# Altium footprint library LaserPCB.PcbLib: 69 footprints (part 4 of 5)
Each footprint in its own frame and in the unit in brackets; x right, y up, seen from the top. Pads: shape width x height; smd on the part's side, far side on the other; paste and mask are expansions set on the pad; w line width, h text height; cw(c..) or ccw(c..) is an arc to the next point about the centre after c.
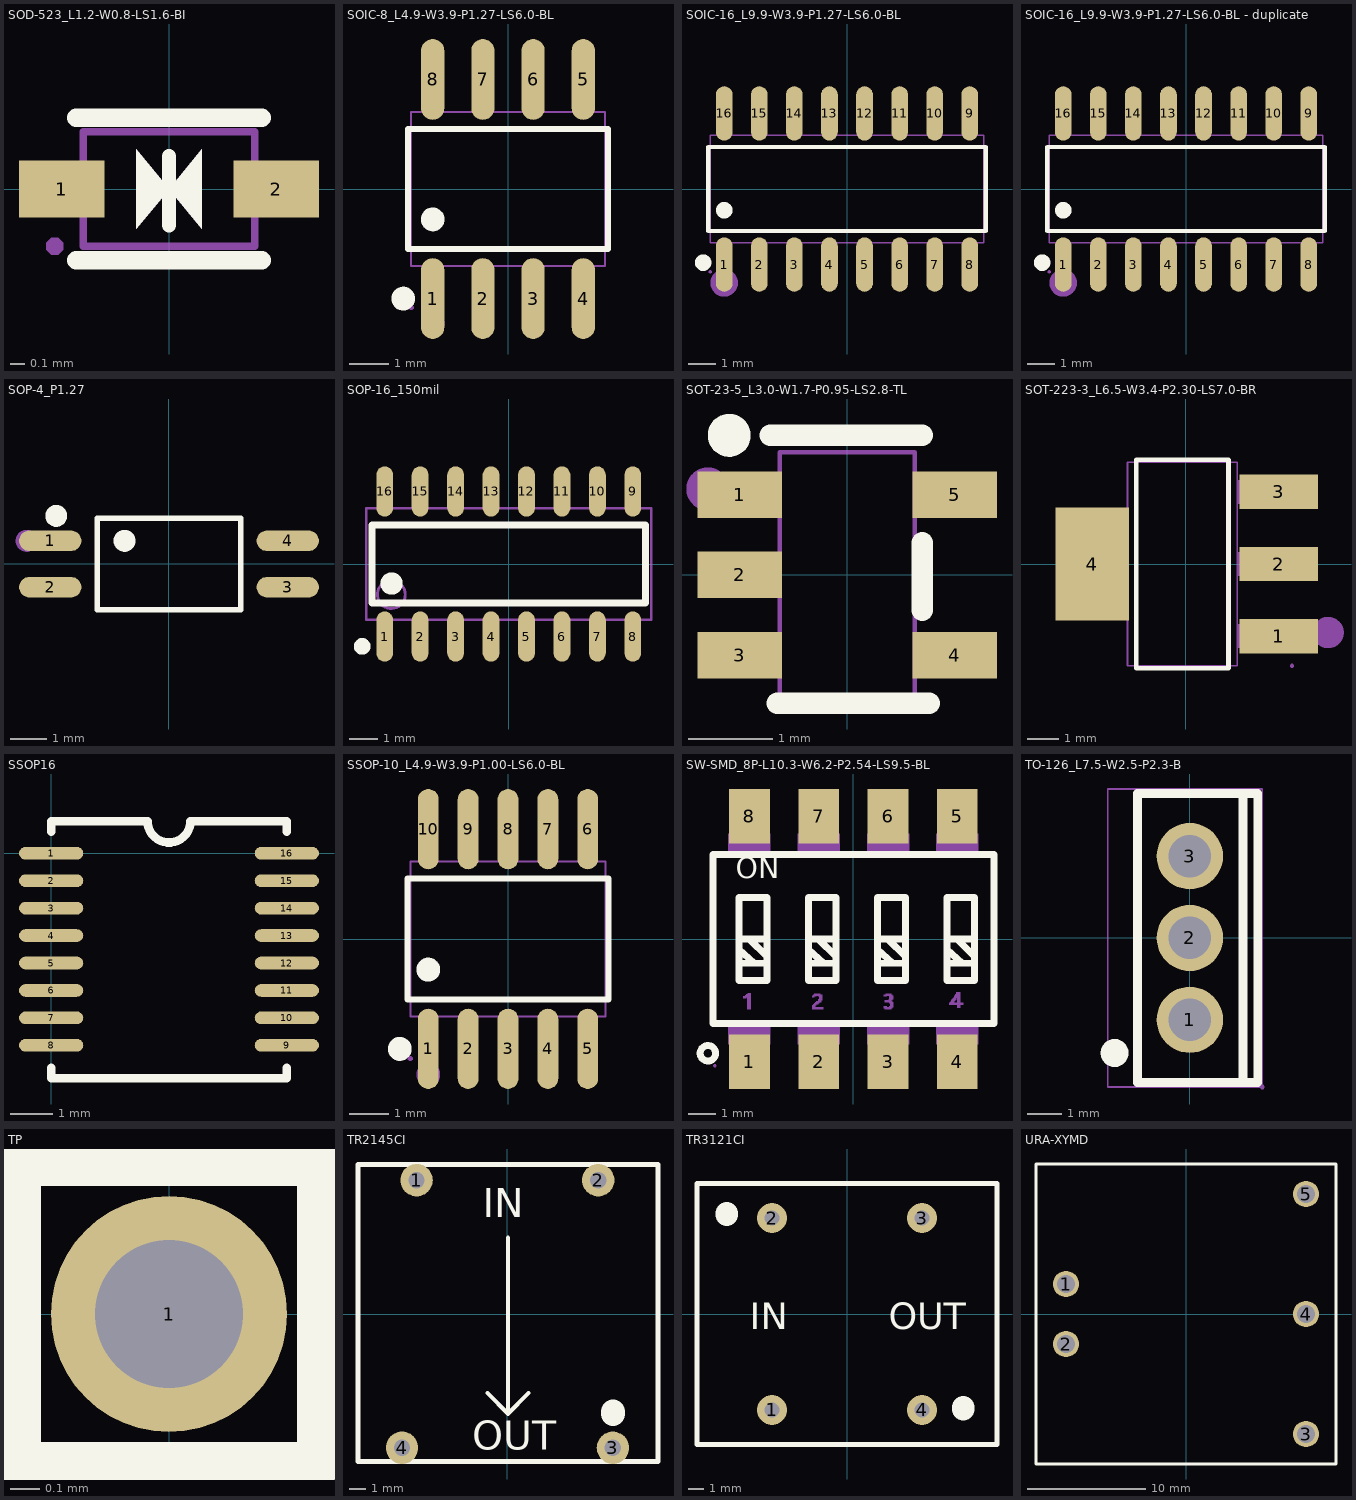
[diagram p3: the footprints below, top view; thin cyan lines are the x and y axes]

## SOD-523_L1.2-W0.8-LS1.6-BI [mm]
pads (2):
  rect 0.6x0.4 smd: 1(-0.75,0) 2(0.75,0)
Top Overlay:
  region: 0,0 0.229,0.279 0.229,-0.279
  region: 0,0 -0.229,-0.279 -0.229,0.279
  lines w0.1: 0,-0.254 0,0.229
  lines w0.13: -0.65,-0.5 0.65,-0.5 ; -0.65,0.5 0.65,0.5
Mechanical 6:
  region: -0.229,0.279 -0.229,-0.279 0,0
  region: 0.229,0.279 0.229,-0.279 0,0
Mechanical 15:
  region: -0.74,-0.4 -0.74,-0.425 -0.775,-0.46 -0.825,-0.46 -0.86,-0.425 -0.86,-0.4 -0.86,-0.375 -0.825,-0.34 -0.775,-0.34 -0.74,-0.375
  region: 0.8,-0.152 0.463,-0.152 0.463,0.148 0.8,0.148
  region: -0.8,0.15 -0.463,0.15 -0.463,-0.15 -0.8,-0.15
  lines w0.051: -0.6,-0.4 -0.6,0.4 0.6,0.4 0.6,-0.4 -0.6,-0.4

## SOIC-8_L4.9-W3.9-P1.27-LS6.0-BL [mm]
pads (8):
  oval 0.588x2.045 smd: 1(-1.905,-2.772) 2(-0.635,-2.772) 3(0.635,-2.772) 4(1.905,-2.772) 5(1.905,2.772) 6(0.635,2.772) 7(-0.635,2.772) 8(-1.905,2.772)
Top Overlay:
  circle w0.3: c-2.652,-2.772 r0.15
  circle w0.3: c-1.905,-0.769 r0.15
  lines w0.152: -2.526,-1.521 2.526,-1.521 2.526,1.521 -2.526,1.521 -2.526,-1.521
Mechanical 6:
  circle w0.3: c-1.905,-3.4 r0.15
Mechanical 15:
  region: 1.695,2.175 1.695,1.94 2.115,1.94 2.115,2.175
  region: 1.695,3 1.695,2.165 2.115,2.165 2.115,3
  region: 0.425,2.175 0.425,1.94 0.845,1.94 0.845,2.175
  region: 0.425,3 0.425,2.165 0.845,2.165 0.845,3
  region: -0.845,2.175 -0.845,1.94 -0.425,1.94 -0.425,2.175
  region: -0.845,3 -0.845,2.165 -0.425,2.165 -0.425,3
  region: -2.115,2.175 -2.115,1.94 -1.695,1.94 -1.695,2.175
  region: -2.115,3 -2.115,2.165 -1.695,2.165 -1.695,3
  region: 1.695,-2.175 1.695,-1.94 2.115,-1.94 2.115,-2.175
  region: 1.695,-3 1.695,-2.165 2.115,-2.165 2.115,-3
  region: 0.425,-2.175 0.425,-1.94 0.845,-1.94 0.845,-2.175
  region: 0.425,-3 0.425,-2.165 0.845,-2.165 0.845,-3
  region: -0.845,-2.175 -0.845,-1.94 -0.425,-1.94 -0.425,-2.175
  region: -0.845,-3 -0.845,-2.165 -0.425,-2.165 -0.425,-3
  region: -2.115,-2.175 -2.115,-1.94 -1.695,-1.94 -1.695,-2.175
  region: -2.115,-3 -2.115,-2.165 -1.695,-2.165 -1.695,-3
  region: -2.39,-3 -2.39,-3.025 -2.425,-3.06 -2.475,-3.06 -2.51,-3.025 -2.51,-3 -2.51,-2.975 -2.475,-2.94 -2.425,-2.94 -2.39,-2.975
  lines w0.051: -2.45,-1.95 2.45,-1.95 2.45,1.95 -2.45,1.95 -2.45,-1.95

## SOIC-16_L9.9-W3.9-P1.27-LS6.0-BL [mm]
pads (16):
  oval 0.602x1.971 smd: 1(-4.445,-2.736) 2(-3.175,-2.736) 3(-1.905,-2.736) 4(-0.635,-2.736) 5(0.635,-2.736) 6(1.905,-2.736) 7(3.175,-2.736) 8(4.445,-2.736) 9(4.445,2.736) 10(3.175,2.736) 11(1.905,2.736) 12(0.635,2.736) 13(-0.635,2.736) 14(-1.905,2.736) 15(-3.175,2.736) 16(-4.445,2.736)
Top Overlay:
  circle w0.3: c-5.207,-2.667 r0.15
  circle w0.3: c-4.445,-0.769 r0.15
  lines w0.152: -5.026,-1.521 5.026,-1.521 5.026,1.521 -5.026,1.521 -5.026,-1.521
Mechanical 6:
  circle w0.5: c-4.445,-3.4 r0.25
Mechanical 15:
  drawing of 37 lines, arcs and shapes, not listed

## SOIC-16_L9.9-W3.9-P1.27-LS6.0-BL - duplicate [mm]
pads (16):
  oval 0.602x1.971 smd: 1(-4.445,-2.736) 2(-3.175,-2.736) 3(-1.905,-2.736) 4(-0.635,-2.736) 5(0.635,-2.736) 6(1.905,-2.736) 7(3.175,-2.736) 8(4.445,-2.736) 9(4.445,2.736) 10(3.175,2.736) 11(1.905,2.736) 12(0.635,2.736) 13(-0.635,2.736) 14(-1.905,2.736) 15(-3.175,2.736) 16(-4.445,2.736)
Top Overlay:
  circle w0.3: c-5.207,-2.667 r0.15
  circle w0.3: c-4.445,-0.769 r0.15
  lines w0.152: -5.026,-1.521 5.026,-1.521 5.026,1.521 -5.026,1.521 -5.026,-1.521
Mechanical 6:
  circle w0.5: c-4.445,-3.4 r0.25
Mechanical 15:
  drawing of 37 lines, arcs and shapes, not listed

## SOP-4_P1.27 [mm]
pads (4):
  oval 1.71x0.56 smd: 1(-3.255,0.635) 2(-3.255,-0.635) 3(3.255,-0.635) 4(3.255,0.635)
Top Overlay:
  circle w0.3: c-3.09,1.319 r0.15
  circle w0.3: c-1.219,0.635 r0.15
  lines w0.152: -1.971,-1.251 -1.971,1.251 1.971,1.251 1.971,-1.251 -1.971,-1.251
Mechanical 15:
  circle w0.3: c-3.9,0.635 r0.15

## SOP-16_150mil [mm]
pads (16):
  oval 0.6x1.8 smd: 1(-4.445,-2.6) 2(-3.175,-2.6) 3(-1.905,-2.6) 4(-0.635,-2.6) 5(0.635,-2.6) 6(1.905,-2.6) 7(3.175,-2.6) 8(4.445,-2.6) 9(4.445,2.6) 10(3.175,2.6) 11(1.905,2.6) 12(0.635,2.6) 13(-0.635,2.6) 14(-1.905,2.6) 15(-3.175,2.6) 16(-4.445,2.6)
Top Overlay:
  circle w0.3: c-5.25,-2.95 r0.15
  circle w0.4: c-4.2,-0.7 r0.2
  lines w0.254: -4.9,-1.4 -4.9,1.4 4.9,1.4 4.9,-1.4 -4.9,-1.4
Mechanical 13:
  circle w0.1: c-4.205,-1.095 r0.5
  lines w0.1: -5.105,-1.995 -5.105,1.995 5.105,1.995 5.105,-1.995 -5.105,-1.995

## SOT-23-5_L3.0-W1.7-P0.95-LS2.8-TL [mm]
pads (5):
  rect 1x0.55 smd: 1(-1.271,0.95) 2(-1.271,0) 3(-1.271,-0.95) 4(1.271,-0.95) 5(1.271,0.95)
Top Overlay:
  circle w0.254: c-1.397,1.651 r0.127
  lines w0.254: -0.911,1.651 0.889,1.651 ; -0.83,-1.522 0.97,-1.522 ; 0.889,-0.419 0.889,0.381
Mechanical 6:
  circle w0.254: c-1.651,1.016 r0.127
Mechanical 15:
  region: 0.95,1.15 1.4,1.15 1.4,0.75 0.95,0.75
  region: 0.79,1.15 0.96,1.15 0.96,0.75 0.79,0.75
  region: 0.95,-0.75 1.4,-0.75 1.4,-1.15 0.95,-1.15
  region: 0.79,-0.75 0.96,-0.75 0.96,-1.15 0.79,-1.15
  region: -1.4,-0.75 -0.95,-0.75 -0.95,-1.15 -1.4,-1.15
  region: -0.96,-0.75 -0.79,-0.75 -0.79,-1.15 -0.96,-1.15
  region: -1.4,0.2 -0.95,0.2 -0.95,-0.2 -1.4,-0.2
  region: -0.96,0.2 -0.79,0.2 -0.79,-0.2 -0.96,-0.2
  region: -1.4,1.15 -0.95,1.15 -0.95,0.75 -1.4,0.75
  region: -0.96,1.15 -0.79,1.15 -0.79,0.75 -0.96,0.75
  region: -1.257,1.537 -1.257,1.512 -1.293,1.477 -1.342,1.477 -1.377,1.512 -1.377,1.537 -1.377,1.561 -1.342,1.597 -1.293,1.597 -1.257,1.561
  lines w0.051: -0.8,-1.45 -0.8,1.45 0.8,1.45 0.8,-1.45 -0.8,-1.45

## SOT-223-3_L6.5-W3.4-P2.30-LS7.0-BR [mm]
pads (4):
  rect 2.5x1.1 smd: 1(2.97,-2.3) 2(2.97,0) 3(2.97,2.3)
  rect 2.34x3.6 smd: 4(-2.97,0)
Top Overlay:
  lines w0.152: -1.571,-3.326 -1.571,3.326 1.371,3.326 1.371,-3.326 -1.571,-3.326
Mechanical 6:
  circle w0.5: c4.552,-2.188 r0.25
Mechanical 15:
  region: 3.46,-3.25 3.46,-3.275 3.425,-3.31 3.375,-3.31 3.34,-3.275 3.34,-3.25 3.34,-3.225 3.375,-3.19 3.425,-3.19 3.46,-3.225
  region: 1.64,1.925 1.64,2.675 2.66,2.675 2.66,1.925
  region: 2.65,1.925 2.65,2.675 3.4,2.675 3.4,1.925
  region: 1.64,-0.375 1.64,0.375 2.66,0.375 2.66,-0.375
  region: 2.65,-0.375 2.65,0.375 3.4,0.375 3.4,-0.375
  region: 1.64,-2.675 1.64,-1.925 2.66,-1.925 2.66,-2.675
  region: 2.65,-2.675 2.65,-1.925 3.4,-1.925 3.4,-2.675
  region: -2.86,-1.5 -2.86,1.5 -1.84,1.5 -1.84,-1.5
  region: -3.6,-1.5 -3.6,1.5 -2.85,1.5 -2.85,-1.5
  lines w0.051: -1.85,-3.25 -1.85,3.25 1.65,3.25 1.65,-3.25 -1.85,-3.25

## SSOP16 [mil]
pads (16):
  oval 60x11.81 smd: 1(0,0) 2(0,-25.6) 3(0,-51.2) 4(0,-76.8) 5(0,-102.4) 6(0,-128) 7(0,-153.6) 8(0,-179.2) 9(220,-179.2) 10(220,-153.6) 11(220,-128) 12(220,-102.4) 13(220,-76.8) 14(220,-51.2) 15(220,-25.6) 16(220,0)
Top Overlay:
  lines w8: 0,-200 0,-210 220,-210 220,-200 ; 0,20 0,30 90,30 ccw(c110,30) 130,30 220,30 220,20

## SSOP-10_L4.9-W3.9-P1.00-LS6.0-BL [mm]
pads (10):
  oval 0.525x2.014 smd: 1(-2,-2.757) 2(-1,-2.757) 3(0,-2.757) 4(1,-2.757) 5(2,-2.757) 6(2,2.757) 7(1,2.757) 8(0,2.757) 9(-1,2.757) 10(-2,2.757)
Top Overlay:
  circle w0.3: c-2,-0.769 r0.15
  circle w0.3: c-2.715,-2.757 r0.15
  lines w0.152: -2.526,-1.521 -2.526,1.521 2.526,1.521 2.526,-1.521 -2.526,-1.521
Mechanical 6:
  circle w0.3: c-2,-3.4 r0.15
Mechanical 15:
  region: -2.39,-3 -2.391,-2.976 -2.426,-2.941 -2.474,-2.941 -2.51,-2.975 -2.51,-3 -2.51,-3.024 -2.475,-3.059 -2.426,-3.059 -2.391,-3.024
  region: -2.187,-3 -2.187,-2.165 -1.812,-2.165 -1.812,-3
  region: -2.187,-2.175 -2.187,-1.94 -1.812,-1.94 -1.812,-2.175
  region: -1.188,-3 -1.188,-2.165 -0.812,-2.165 -0.812,-3
  region: -1.188,-2.175 -1.188,-1.94 -0.812,-1.94 -0.812,-2.175
  region: -0.188,-3 -0.188,-2.165 0.188,-2.165 0.188,-3
  region: -0.188,-2.175 -0.188,-1.94 0.188,-1.94 0.188,-2.175
  region: 0.812,-3 0.812,-2.165 1.188,-2.165 1.188,-3
  region: 0.812,-2.175 0.812,-1.94 1.188,-1.94 1.188,-2.175
  region: 1.812,-3 1.812,-2.165 2.187,-2.165 2.187,-3
  region: 1.812,-2.175 1.812,-1.94 2.187,-1.94 2.187,-2.175
  region: -2.187,3 -2.187,2.165 -1.812,2.165 -1.812,3
  region: -2.187,2.175 -2.187,1.94 -1.812,1.94 -1.812,2.175
  region: -1.188,3 -1.188,2.165 -0.812,2.165 -0.812,3
  region: -1.188,2.175 -1.188,1.94 -0.812,1.94 -0.812,2.175
  region: -0.188,3 -0.188,2.165 0.188,2.165 0.188,3
  region: -0.188,2.175 -0.188,1.94 0.188,1.94 0.188,2.175
  region: 0.812,3 0.812,2.165 1.188,2.165 1.188,3
  region: 0.812,2.175 0.812,1.94 1.188,1.94 1.188,2.175
  region: 1.812,3 1.812,2.165 2.187,2.165 2.187,3
  region: 1.812,2.175 1.812,1.94 2.187,1.94 2.187,2.175
  lines w0.051: -2.45,-1.95 -2.45,1.95 2.45,1.95 2.45,-1.95 -2.45,-1.95

## SW-SMD_8P-L10.3-W6.2-P2.54-LS9.5-BL [mm]
pads (8):
  rect 1.5x2 smd: 1(-3.81,-4.5) 2(-1.27,-4.5) 3(1.27,-4.5) 4(3.81,-4.5) 5(3.81,4.5) 6(1.27,4.5) 7(-1.27,4.5) 8(-3.81,4.5)
Top Overlay:
  circle w0.254: c-5.334,-4.191 r0.284
  lines w0.254: -4.191,-0.889 -3.175,-0.889 ; -4.191,-0.381 -3.634,-0.888 ; -4.191,0 -3.175,0 ; -3.83,0 -3.174,-0.634 ; -1.651,-0.889 -0.635,-0.889 ; -1.651,-0.381 -1.094,-0.888 ; -1.651,0 -0.635,0 ; -1.29,0 -0.634,-0.634 ; 0.889,-0.889 1.905,-0.889 ; 0.889,-0.381 1.446,-0.888 ; 0.889,0 1.905,0 ; 1.25,0 1.906,-0.634 ; 3.429,-0.889 4.445,-0.889 ; 3.429,-0.381 3.986,-0.888 ; 3.429,0 4.445,0 ; 3.79,0 4.446,-0.634 ; -5.15,-3.1 -5.15,3.1 5.15,3.1 5.15,-3.1 -5.15,-3.1 ; -4.191,-1.524 -4.191,1.524 -3.175,1.524 -3.175,-1.524 -4.191,-1.524 ; -1.651,-1.524 -1.651,1.524 -0.635,1.524 -0.635,-1.524 -1.651,-1.524 ; 0.889,-1.524 0.889,1.524 1.905,1.524 1.905,-1.524 0.889,-1.524 ; 3.429,-1.524 3.429,1.524 4.445,1.524 4.445,-1.524 3.429,-1.524
  text "ON" at -4.315,2.223 h0.76
Mechanical 6:
  drawing of 74 lines, arcs and shapes, not listed
Mechanical 15:
  region: -3.04,3.86 -3.04,2.99 -4.58,2.99 -4.58,3.86
  region: -0.5,3.86 -0.5,2.99 -2.04,2.99 -2.04,3.86
  region: 2.04,3.86 2.04,2.99 0.5,2.99 0.5,3.86
  region: 4.58,3.86 4.58,2.99 3.04,2.99 3.04,3.86
  region: -3.04,-2.99 -3.04,-3.86 -4.58,-3.86 -4.58,-2.99
  region: -0.5,-2.99 -0.5,-3.86 -2.04,-3.86 -2.04,-2.99
  region: 2.04,-2.99 2.04,-3.86 0.5,-3.86 0.5,-2.99
  region: 4.11,-3.85 4.11,-4.65 3.51,-4.65 3.51,-3.85
  region: 4.58,-2.99 4.58,-3.86 3.04,-3.86 3.04,-2.99
  region: 4.11,4.65 4.11,3.85 3.51,3.85 3.51,4.65
  region: 1.57,4.65 1.57,3.85 0.97,3.85 0.97,4.65
  region: 1.57,-3.85 1.57,-4.65 0.97,-4.65 0.97,-3.85
  region: -0.97,-3.85 -0.97,-4.65 -1.57,-4.65 -1.57,-3.85
  region: -0.97,4.65 -0.97,3.85 -1.57,3.85 -1.57,4.65
  region: -3.51,4.65 -3.51,3.85 -4.11,3.85 -4.11,4.65
  region: -3.51,-3.85 -3.51,-4.65 -4.11,-4.65 -4.11,-3.85
  region: -5.02,-4.65 -5.02,-4.675 -5.055,-4.71 -5.105,-4.71 -5.14,-4.675 -5.14,-4.65 -5.14,-4.625 -5.105,-4.59 -5.055,-4.59 -5.02,-4.625
  lines w0.051: -5.08,-3 -5.08,3 5.08,3 5.08,-3 -5.08,-3

## TO-126_L7.5-W2.5-P2.3-B [mil]
pads (3):
  round 75 hole 48: 1(0,-92.52) 2(0,0) 3(0,92.52)
Top Overlay:
  lines w10: 60,-160 60,160 ; -59.05,-163.38 -59.05,163.39 76.78,163.39 76.78,-163.38 -59.05,-163.38
  lines w15.75: -77.13,-130.05 cw(c-85,-130) -92.87,-130 cw(c-85,-130) -77.13,-129.95
Mechanical 15:
  region: 84.14,-168.38 84.14,-169.36 82.76,-170.74 80.8,-170.74 79.42,-169.36 79.42,-168.38 79.42,-167.4 80.8,-166.02 82.76,-166.02 84.14,-167.4
  region: 20.06,-92.52 20.06,-96.51 17.01,-103.88 11.36,-109.53 3.99,-112.58 -3.99,-112.58 -11.36,-109.53 -17.01,-103.88 -20.06,-96.51 -20.06,-92.52 -20.06,-88.53 -17.01,-81.16 -11.36,-75.51 -3.99,-72.46 3.99,-72.46 11.36,-75.51 17.01,-81.16 20.06,-88.53
  region: 20.06,0 20.06,-3.99 17.01,-11.36 11.36,-17.01 3.99,-20.06 -3.99,-20.06 -11.36,-17.01 -17.01,-11.36 -20.06,-3.99 -20.06,0 -20.06,3.99 -17.01,11.36 -11.36,17.01 -3.99,20.06 3.99,20.06 11.36,17.01 17.01,11.36 20.06,3.99
  region: 20.06,92.52 20.06,88.53 17.01,81.16 11.36,75.51 3.99,72.46 -3.99,72.46 -11.36,75.51 -17.01,81.16 -20.06,88.53 -20.06,92.52 -20.06,96.51 -17.01,103.88 -11.36,109.53 -3.99,112.58 3.99,112.58 11.36,109.53 17.01,103.88 20.06,96.51
  lines w2: -92.87,-168.38 -92.87,168.39 81.78,168.39 81.78,-168.38 -92.87,-168.38

## TP [mm]
pads (1):
  round 0.8 hole 0.5: 1(0,0)
Top Overlay:
  lines w0.15: -0.508,-0.508 -0.508,0.508 0.508,0.508 0.508,-0.508 -0.508,-0.508

## TR2145CI [mm]
height 1.6
pads (4):
  round 2 hole 1: 1(-5.6,8.25) 2(5.6,8.25) 3(6.5,-8.25) 4(-6.5,-8.25)
Top Overlay:
  lines w0.254: -1.235,-4.881 0.035,-6.151 ; 0.035,4.699 0.035,-6.151 ; 1.305,-4.881 0.035,-6.151
  lines w0.305: -9.215,-9.084 9.285,-9.084 9.285,9.216 -9.215,9.216 -9.215,-9.084
  lines w1.5: 6.512,-6.151 6.512,-6.031
  text "OUT" at -2.159,-8.382 h1.78
  text "IN" at -1.524,5.969 h1.78

## TR3121CI [mm]
height 1.6
pads (4):
  round 2 hole 1: 1(-5,-6.4) 2(-5,6.4) 3(5,6.4) 4(5,-6.4)
Top Overlay:
  lines w0.305: -10,-8.7 10,-8.7 10,8.7 -10,8.7 -10,-8.7
  lines w1.5: -8.001,6.611 -8.001,6.731 ; 7.747,-6.35 7.747,-6.23
  text "OUT" at 2.794,-1.016 h1.78
  text "IN" at -6.477,-1.016 h1.78

## URA-XYMD [mm]
pads (5):
  round 2.2 hole 1.5: 1(-10.16,2.54) 2(-10.16,-2.54) 3(10.16,-10.16) 4(10.16,0) 5(10.16,10.16)
Top Overlay:
  lines w0.254: -12.7,-12.7 -12.7,12.7 12.7,12.7 12.7,-12.7 -12.7,-12.7